# Altium footprint library SAMTEC_IPL1-106-01-X-D-RA-K.PcbLib: 1 footprints
Each footprint in its own frame and in the unit in brackets; x right, y up, seen from the top. Pads: shape width x height; smd on the part's side, far side on the other; paste and mask are expansions set on the pad; w line width, h text height; cw(c..) or ccw(c..) is an arc to the next point about the centre after c.
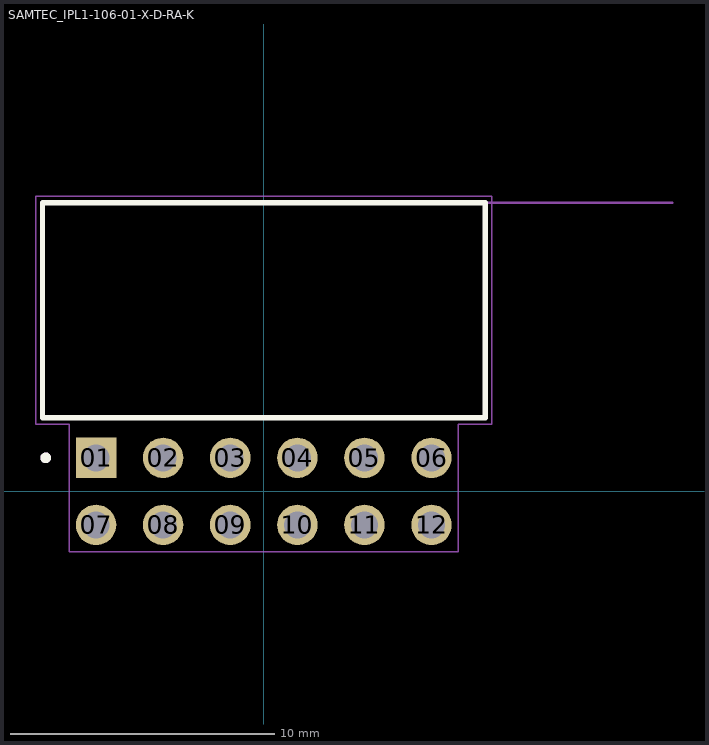
[diagram p0: the footprint, top view; thin cyan lines are the x and y axes]

## SAMTEC_IPL1-106-01-X-D-RA-K [mm]
pads (12):
  rect 1.53x1.53 hole 1.02: 01(-6.35,1.27)
  round 1.53 hole 1.02: 02(-3.81,1.27) 03(-1.27,1.27) 04(1.27,1.27) 05(3.81,1.27) 06(6.35,1.27) 07(-6.35,-1.27) 08(-3.81,-1.27) 09(-1.27,-1.27) 10(1.27,-1.27) 11(3.81,-1.27) 12(6.35,-1.27)
Top Overlay:
  circle w0.2: c-8.255,1.27 r0.1
  lines w0.2: -8.38,2.79 -8.38,10.92 8.38,10.92 8.38,2.79 -8.38,2.79
Mechanical 13:
  circle w0.2: c-8.255,1.27 r0.1
  lines w0.1: 15.46,10.92 8.38,10.92 ; 8.38,10.92 -8.38,10.92 -8.38,2.79 8.38,2.79 8.38,10.92
  text "PCB Edge" at 9.085,11.02 h0.81
Mechanical 15:
  lines w0.05: -8.63,2.54 -7.365,2.54 -7.365,-2.285 7.365,-2.285 7.365,2.54 8.63,2.54 8.63,11.17 -8.63,11.17 -8.63,2.54
3D body "IPL1-106-01-L-D-RA-K.stp": height 8.19, standoff -1.84, extent -8.48,-1.489 8.284,11.02